# EAGLE library part DS3231 (library wsn)
RS232 Transceiver Very common IC. This is generically called 'MAX232', but works with the 3V equivalent MAX3232 generic ICs. Field tested and mother approved. Spark Fun Electronics SKU : COM-00316 (DIP) and COM-00589 (SMD)
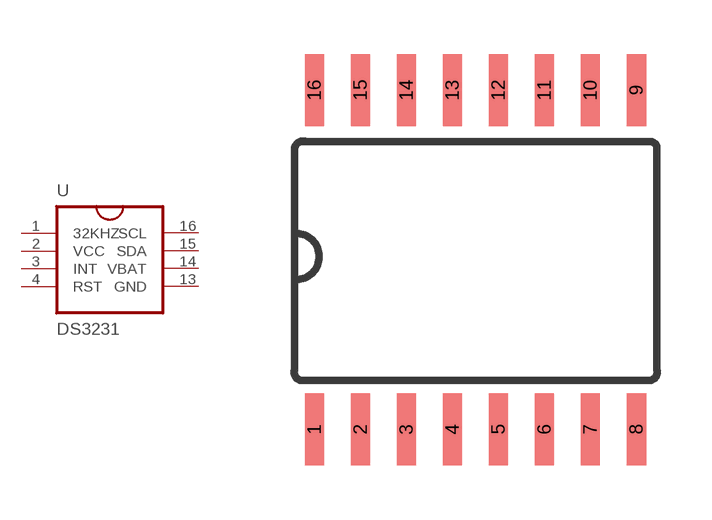
[diagram p3: symbol with the pads of SO016; footprint SO016]

Designator prefix U

## DS3231SOIC16 (PROD_ID: IC-08171)  [SO016]
1  32KHZ
2  VCC
3  INT
4  RST
13  GND
14  VBAT
15  SDA
16  SCL

## Footprint SO016 (pad centres in mm)
smd 0.53 x 1.98: 1 0,0; 2 1.27,0; 3 2.54,0; 4 3.81,0; 5 5.08,0; 6 6.35,0; 7 7.62,0; 8 8.89,0; 9 8.89,9.37; 10 7.62,9.37; 11 6.35,9.37; 12 5.08,9.37; 13 3.81,9.37; 14 2.54,9.37; 15 1.27,9.37; 16 0,9.37